# EAGLE library part DRV8825 (library Lib_Autobotz_2023)
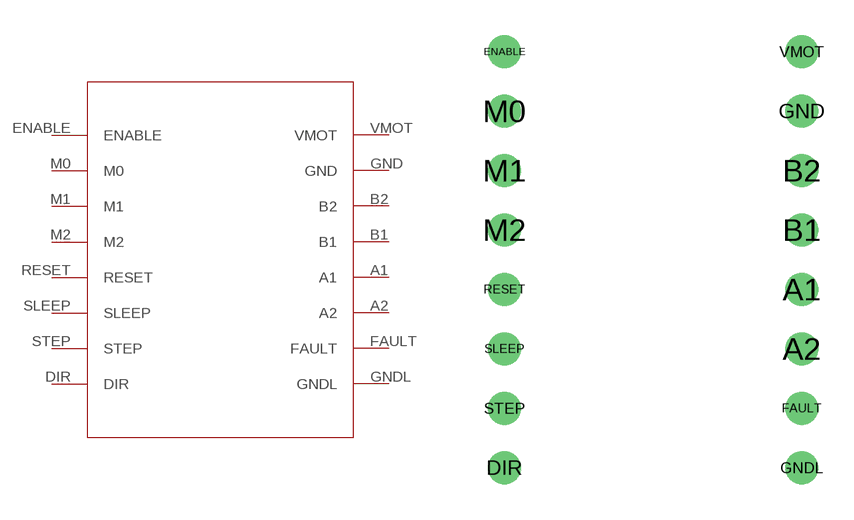
[diagram p0: symbol with the pads of DRV8825; footprint DRV8825]

Designator prefix -

## DRV8825  [DRV8825]
A1  A1
A2  A2
B1  B1
B2  B2
DIR  DIR
ENABLE  ENABLE
FAULT  FAULT
GND  GND
GNDL  GNDL
M0  M0
M1  M1
M2  M2
RESET  RESET
SLEEP  SLEEP
STEP  STEP
VMOT  VMOT

## Footprint DRV8825 (pad centres in mm)
drill 0.6 pad 1.422: A1 6.35,-2.54; A2 6.35,-5.08; B1 6.35,0; B2 6.35,2.54; DIR -6.35,-10.16; ENABLE -6.35,7.62; FAULT 6.35,-7.62; GND 6.35,5.08; GNDL 6.35,-10.16; M0 -6.35,5.08; M1 -6.35,2.54; M2 -6.35,0; RESET -6.35,-2.54; SLEEP -6.35,-5.08; STEP -6.35,-7.62; VMOT 6.35,7.62